# Altium schematic symbol library SL_Si8631_SOIC16.SchLib: 1 symbol
Pins are listed as number, name and electrical type; pins without a type are passive.

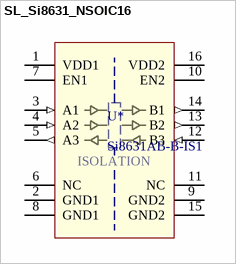
[diagram p0: symbol SL_Si8631_NSOIC16]

## SL_Si8631_NSOIC16
designator U*, comment Si8631AB-B-IS1
2/1 Channel Digital Isolator; Supplier 1: Digi-Key; Supplier Part Number 1: SI8631AB-B-IS1-ND
footprint SOIC127P600X175-16N (SOIC, 16-Leads, Body 9.90x3.90mm, Pitch 1.27mm, IPC Medium Density)
pins: 1 VDD1 (power), 2 GND1 (power), 3 A1 (in), 4 A2 (in), 5 A3 (out), 6 NC, 7 EN1, 8 GND1 (power), 9 GND2 (power), 10 EN2, 11 NC, 12 B3 (in), 13 B2 (out), 14 B1 (out), 15 GND2 (power), 16 VDD2 (power)
text: ISOLATION